# Altium schematic symbol library Diodes-Inc-Regulator.SchLib: 1 symbol
Pins are listed as number, name and electrical type; pins without a type are passive.

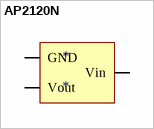
[diagram p0: symbol AP2120N]

## AP2120N
designator *
3.0V regulator
footprint AP2120 (SOT-23)
pins: 1 GND, 2 Vout, 3 Vin